# Altium footprint library Connector_Phoenix_MC.PcbLib: 180 footprints (part 11 of 12)
Each footprint in its own frame and in the unit in brackets; x right, y up, seen from the top. Pads: shape width x height; smd on the part's side, far side on the other; paste and mask are expansions set on the pad; w line width, h text height; cw(c..) or ccw(c..) is an arc to the next point about the centre after c.
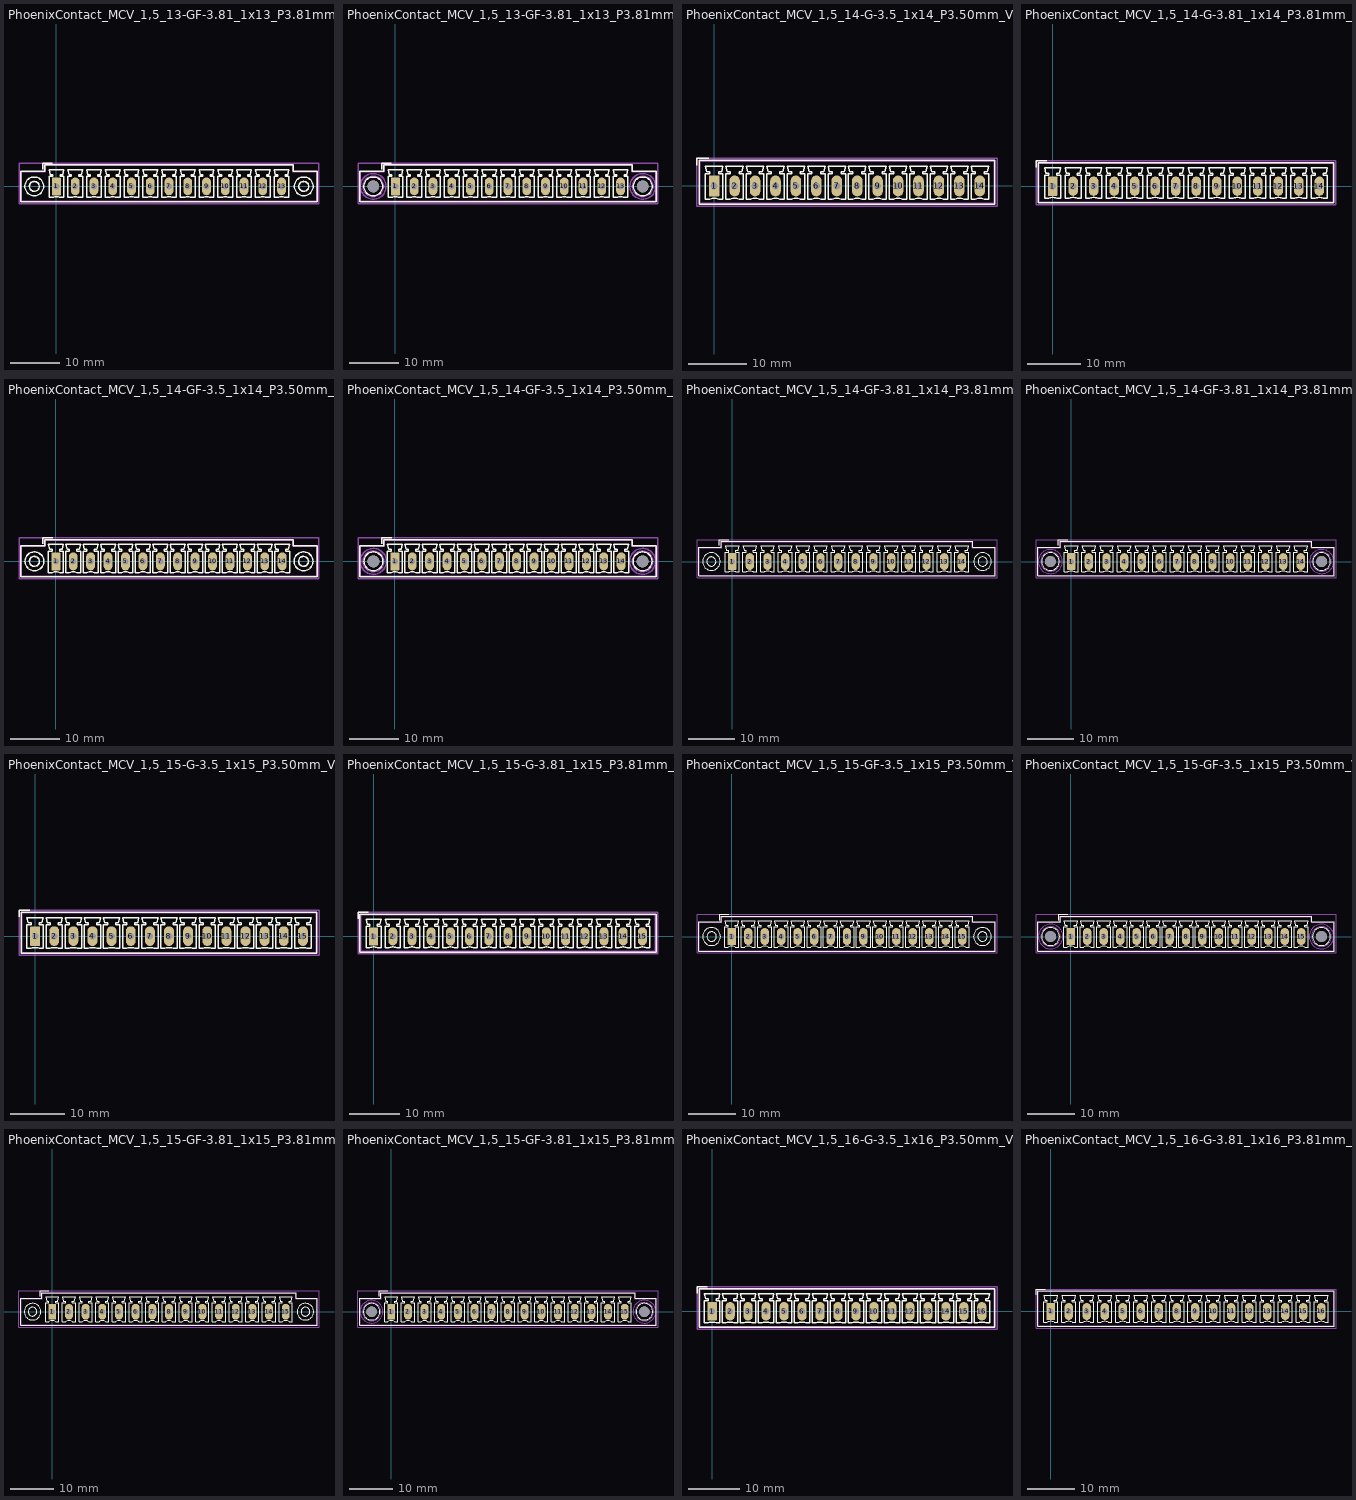
[diagram p10: the footprints below, top view; thin cyan lines are the x and y axes]

## PhoenixContact_MCV_1,5_13-GF-3.81_1x13_P3.81mm_Vertical_ThreadedFlange [mm]
pads (13):
  rrect14% 1.8x3.6 hole 1.2: 1(0,0)
  rrect100% 1.8x3.6 hole 1.2: 2(3.81,0) 3(7.62,0) 4(11.43,0) 5(15.24,0) 6(19.05,0) 7(22.86,0) 8(26.67,0) 9(30.48,0) 10(34.29,0) 11(38.1,0) 12(41.91,0) 13(45.72,0)
F.SilkS:
  drawing of 196 lines, arcs and shapes, not listed
Top Assembly:
  lines w0.254: -2.8,3.5 -2.8,4.75 -0.8,4.75 ; -7.1,-3 52.82,-3 52.82,3 48.02,3 48.02,4.25 -2.3,4.25 -2.3,3 -7.1,3 -7.1,-3
  text "'.Designator'" at 18.813,2.71 h1
Top Courtyard:
  lines w0.254: -7.6,-3.5 53.32,-3.5 53.32,4.75 -7.6,4.75 -7.6,-3.5
Top Designator:
  text ".Designator" at 15.242,0.117 h1.52

## PhoenixContact_MCV_1,5_13-GF-3.81_1x13_P3.81mm_Vertical_ThreadedFlange_MountHole [mm]
pads (15):
  rrect14% 1.8x3.6 hole 1.2: 1(0,0)
  rrect100% 1.8x3.6 hole 1.2: 2(3.81,0) 3(7.62,0) 4(11.43,0) 5(15.24,0) 6(19.05,0) 7(22.86,0) 8(26.67,0) 9(30.48,0) 10(34.29,0) 11(38.1,0) 12(41.91,0) 13(45.72,0)
  round 2.4 hole 2.4: Un1(-4.5,0) Un2(50.22,0)
F.SilkS:
  drawing of 194 lines, arcs and shapes, not listed
B.SilkS:
  circle w0.254: c50.22,0 r2.21
  circle w0.254: c-4.5,0 r2.21
Top Assembly:
  lines w0.254: -2.8,3.5 -2.8,4.75 -0.8,4.75 ; -7.1,-3 52.82,-3 52.82,3 48.02,3 48.02,4.25 -2.3,4.25 -2.3,3 -7.1,3 -7.1,-3
  text "'.Designator'" at 18.813,2.71 h1
Bottom Assembly:
  circle w0.254: c50.22,0 r2.1
  circle w0.254: c-4.5,0 r2.1
Top Courtyard:
  lines w0.254: -7.6,-3.5 53.32,-3.5 53.32,4.75 -7.6,4.75 -7.6,-3.5
Bottom Courtyard:
  circle w0.254: c50.22,0 r2.6
  circle w0.254: c-4.5,0 r2.6
Top Designator:
  text ".Designator" at 15.242,0.117 h1.52

## PhoenixContact_MCV_1,5_14-G-3.5_1x14_P3.50mm_Vertical [mm]
pads (14):
  rrect14% 1.8x3.6 hole 1.2: 1(0,0)
  rrect100% 1.8x3.6 hole 1.2: 2(3.5,0) 3(7,0) 4(10.5,0) 5(14,0) 6(17.5,0) 7(21,0) 8(24.5,0) 9(28,0) 10(31.5,0) 11(35,0) 12(38.5,0) 13(42,0) 14(45.5,0)
F.SilkS:
  drawing of 202 lines, arcs and shapes, not listed
Top Assembly:
  lines w0.254: -2.95,3.5 -2.95,4.75 -0.95,4.75 ; -2.45,-3 47.95,-3 47.95,4.25 -2.45,4.25 -2.45,-3
  text "'.Designator'" at 18.703,2.71 h1
Top Courtyard:
  lines w0.254: -2.95,-3.5 48.45,-3.5 48.45,4.75 -2.95,4.75 -2.95,-3.5
Top Designator:
  text ".Designator" at 15.132,0.117 h1.52

## PhoenixContact_MCV_1,5_14-G-3.81_1x14_P3.81mm_Vertical [mm]
pads (14):
  rrect14% 1.8x3.6 hole 1.2: 1(0,0)
  rrect100% 1.8x3.6 hole 1.2: 2(3.81,0) 3(7.62,0) 4(11.43,0) 5(15.24,0) 6(19.05,0) 7(22.86,0) 8(26.67,0) 9(30.48,0) 10(34.29,0) 11(38.1,0) 12(41.91,0) 13(45.72,0) 14(49.53,0)
F.SilkS:
  drawing of 202 lines, arcs and shapes, not listed
Top Assembly:
  lines w0.254: -3.1,3.5 -3.1,4.75 -1.1,4.75 ; -2.6,-3 52.13,-3 52.13,4.25 -2.6,4.25 -2.6,-3
  text "'.Designator'" at 20.713,2.71 h1
Top Courtyard:
  lines w0.254: -3.1,-3.5 52.63,-3.5 52.63,4.75 -3.1,4.75 -3.1,-3.5
Top Designator:
  text ".Designator" at 17.147,0.117 h1.52

## PhoenixContact_MCV_1,5_14-GF-3.5_1x14_P3.50mm_Vertical_ThreadedFlange [mm]
pads (14):
  rrect14% 1.8x3.6 hole 1.2: 1(0,0)
  rrect100% 1.8x3.6 hole 1.2: 2(3.5,0) 3(7,0) 4(10.5,0) 5(14,0) 6(17.5,0) 7(21,0) 8(24.5,0) 9(28,0) 10(31.5,0) 11(35,0) 12(38.5,0) 13(42,0) 14(45.5,0)
F.SilkS:
  drawing of 210 lines, arcs and shapes, not listed
Top Assembly:
  lines w0.254: -2.6,3.5 -2.6,4.75 -0.6,4.75 ; -6.9,-3 52.4,-3 52.4,3 47.6,3 47.6,4.25 -2.1,4.25 -2.1,3 -6.9,3 -6.9,-3
  text "'.Designator'" at 18.703,2.71 h1
Top Courtyard:
  lines w0.254: -7.4,-3.5 52.9,-3.5 52.9,4.75 -7.4,4.75 -7.4,-3.5
Top Designator:
  text ".Designator" at 15.132,0.117 h1.52

## PhoenixContact_MCV_1,5_14-GF-3.5_1x14_P3.50mm_Vertical_ThreadedFlange_MountHole [mm]
pads (16):
  rrect14% 1.8x3.6 hole 1.2: 1(0,0)
  rrect100% 1.8x3.6 hole 1.2: 2(3.5,0) 3(7,0) 4(10.5,0) 5(14,0) 6(17.5,0) 7(21,0) 8(24.5,0) 9(28,0) 10(31.5,0) 11(35,0) 12(38.5,0) 13(42,0) 14(45.5,0)
  round 2.4 hole 2.4: Un1(-4.3,0) Un2(49.8,0)
F.SilkS:
  drawing of 208 lines, arcs and shapes, not listed
B.SilkS:
  circle w0.254: c49.8,0 r2.21
  circle w0.254: c-4.3,0 r2.21
Top Assembly:
  lines w0.254: -2.6,3.5 -2.6,4.75 -0.6,4.75 ; -6.9,-3 52.4,-3 52.4,3 47.6,3 47.6,4.25 -2.1,4.25 -2.1,3 -6.9,3 -6.9,-3
  text "'.Designator'" at 18.703,2.71 h1
Bottom Assembly:
  circle w0.254: c49.8,0 r2.1
  circle w0.254: c-4.3,0 r2.1
Top Courtyard:
  lines w0.254: -7.4,-3.5 52.9,-3.5 52.9,4.75 -7.4,4.75 -7.4,-3.5
Bottom Courtyard:
  circle w0.254: c49.8,0 r2.6
  circle w0.254: c-4.3,0 r2.6
Top Designator:
  text ".Designator" at 15.132,0.117 h1.52

## PhoenixContact_MCV_1,5_14-GF-3.81_1x14_P3.81mm_Vertical_ThreadedFlange [mm]
pads (14):
  rrect14% 1.8x3.6 hole 1.2: 1(0,0)
  rrect100% 1.8x3.6 hole 1.2: 2(3.81,0) 3(7.62,0) 4(11.43,0) 5(15.24,0) 6(19.05,0) 7(22.86,0) 8(26.67,0) 9(30.48,0) 10(34.29,0) 11(38.1,0) 12(41.91,0) 13(45.72,0) 14(49.53,0)
F.SilkS:
  drawing of 210 lines, arcs and shapes, not listed
Top Assembly:
  lines w0.254: -2.8,3.5 -2.8,4.75 -0.8,4.75 ; -7.1,-3 56.63,-3 56.63,3 51.83,3 51.83,4.25 -2.3,4.25 -2.3,3 -7.1,3 -7.1,-3
  text "'.Designator'" at 20.713,2.71 h1
Top Courtyard:
  lines w0.254: -7.6,-3.5 57.13,-3.5 57.13,4.75 -7.6,4.75 -7.6,-3.5
Top Designator:
  text ".Designator" at 17.147,0.117 h1.52

## PhoenixContact_MCV_1,5_14-GF-3.81_1x14_P3.81mm_Vertical_ThreadedFlange_MountHole [mm]
pads (16):
  rrect14% 1.8x3.6 hole 1.2: 1(0,0)
  rrect100% 1.8x3.6 hole 1.2: 2(3.81,0) 3(7.62,0) 4(11.43,0) 5(15.24,0) 6(19.05,0) 7(22.86,0) 8(26.67,0) 9(30.48,0) 10(34.29,0) 11(38.1,0) 12(41.91,0) 13(45.72,0) 14(49.53,0)
  round 2.4 hole 2.4: Un1(-4.5,0) Un2(54.03,0)
F.SilkS:
  drawing of 208 lines, arcs and shapes, not listed
B.SilkS:
  circle w0.254: c54.03,0 r2.21
  circle w0.254: c-4.5,0 r2.21
Top Assembly:
  lines w0.254: -2.8,3.5 -2.8,4.75 -0.8,4.75 ; -7.1,-3 56.63,-3 56.63,3 51.83,3 51.83,4.25 -2.3,4.25 -2.3,3 -7.1,3 -7.1,-3
  text "'.Designator'" at 20.713,2.71 h1
Bottom Assembly:
  circle w0.254: c54.03,0 r2.1
  circle w0.254: c-4.5,0 r2.1
Top Courtyard:
  lines w0.254: -7.6,-3.5 57.13,-3.5 57.13,4.75 -7.6,4.75 -7.6,-3.5
Bottom Courtyard:
  circle w0.254: c54.03,0 r2.6
  circle w0.254: c-4.5,0 r2.6
Top Designator:
  text ".Designator" at 17.147,0.117 h1.52

## PhoenixContact_MCV_1,5_15-G-3.5_1x15_P3.50mm_Vertical [mm]
pads (15):
  rrect14% 1.8x3.6 hole 1.2: 1(0,0)
  rrect100% 1.8x3.6 hole 1.2: 2(3.5,0) 3(7,0) 4(10.5,0) 5(14,0) 6(17.5,0) 7(21,0) 8(24.5,0) 9(28,0) 10(31.5,0) 11(35,0) 12(38.5,0) 13(42,0) 14(45.5,0) 15(49,0)
F.SilkS:
  drawing of 216 lines, arcs and shapes, not listed
Top Assembly:
  lines w0.254: -2.95,3.5 -2.95,4.75 -0.95,4.75 ; -2.45,-3 51.45,-3 51.45,4.25 -2.45,4.25 -2.45,-3
  text "'.Designator'" at 20.453,2.71 h1
Top Courtyard:
  lines w0.254: -2.95,-3.5 51.95,-3.5 51.95,4.75 -2.95,4.75 -2.95,-3.5
Top Designator:
  text ".Designator" at 16.882,0.117 h1.52

## PhoenixContact_MCV_1,5_15-G-3.81_1x15_P3.81mm_Vertical [mm]
pads (15):
  rrect14% 1.8x3.6 hole 1.2: 1(0,0)
  rrect100% 1.8x3.6 hole 1.2: 2(3.81,0) 3(7.62,0) 4(11.43,0) 5(15.24,0) 6(19.05,0) 7(22.86,0) 8(26.67,0) 9(30.48,0) 10(34.29,0) 11(38.1,0) 12(41.91,0) 13(45.72,0) 14(49.53,0) 15(53.34,0)
F.SilkS:
  drawing of 216 lines, arcs and shapes, not listed
Top Assembly:
  lines w0.254: -3.1,3.5 -3.1,4.75 -1.1,4.75 ; -2.6,-3 55.94,-3 55.94,4.25 -2.6,4.25 -2.6,-3
  text "'.Designator'" at 22.623,2.71 h1
Top Courtyard:
  lines w0.254: -3.1,-3.5 56.44,-3.5 56.44,4.75 -3.1,4.75 -3.1,-3.5
Top Designator:
  text ".Designator" at 19.052,0.117 h1.52

## PhoenixContact_MCV_1,5_15-GF-3.5_1x15_P3.50mm_Vertical_ThreadedFlange [mm]
pads (15):
  rrect14% 1.8x3.6 hole 1.2: 1(0,0)
  rrect100% 1.8x3.6 hole 1.2: 2(3.5,0) 3(7,0) 4(10.5,0) 5(14,0) 6(17.5,0) 7(21,0) 8(24.5,0) 9(28,0) 10(31.5,0) 11(35,0) 12(38.5,0) 13(42,0) 14(45.5,0) 15(49,0)
F.SilkS:
  drawing of 224 lines, arcs and shapes, not listed
Top Assembly:
  lines w0.254: -2.6,3.5 -2.6,4.75 -0.6,4.75 ; -6.9,-3 55.9,-3 55.9,3 51.1,3 51.1,4.25 -2.1,4.25 -2.1,3 -6.9,3 -6.9,-3
  text "'.Designator'" at 20.453,2.71 h1
Top Courtyard:
  lines w0.254: -7.4,-3.5 56.4,-3.5 56.4,4.75 -7.4,4.75 -7.4,-3.5
Top Designator:
  text ".Designator" at 16.882,0.117 h1.52

## PhoenixContact_MCV_1,5_15-GF-3.5_1x15_P3.50mm_Vertical_ThreadedFlange_MountHole [mm]
pads (17):
  rrect14% 1.8x3.6 hole 1.2: 1(0,0)
  rrect100% 1.8x3.6 hole 1.2: 2(3.5,0) 3(7,0) 4(10.5,0) 5(14,0) 6(17.5,0) 7(21,0) 8(24.5,0) 9(28,0) 10(31.5,0) 11(35,0) 12(38.5,0) 13(42,0) 14(45.5,0) 15(49,0)
  round 2.4 hole 2.4: Un1(-4.3,0) Un2(53.3,0)
F.SilkS:
  drawing of 222 lines, arcs and shapes, not listed
B.SilkS:
  circle w0.254: c53.3,0 r2.21
  circle w0.254: c-4.3,0 r2.21
Top Assembly:
  lines w0.254: -2.6,3.5 -2.6,4.75 -0.6,4.75 ; -6.9,-3 55.9,-3 55.9,3 51.1,3 51.1,4.25 -2.1,4.25 -2.1,3 -6.9,3 -6.9,-3
  text "'.Designator'" at 20.453,2.71 h1
Bottom Assembly:
  circle w0.254: c53.3,0 r2.1
  circle w0.254: c-4.3,0 r2.1
Top Courtyard:
  lines w0.254: -7.4,-3.5 56.4,-3.5 56.4,4.75 -7.4,4.75 -7.4,-3.5
Bottom Courtyard:
  circle w0.254: c53.3,0 r2.6
  circle w0.254: c-4.3,0 r2.6
Top Designator:
  text ".Designator" at 16.882,0.117 h1.52

## PhoenixContact_MCV_1,5_15-GF-3.81_1x15_P3.81mm_Vertical_ThreadedFlange [mm]
pads (15):
  rrect14% 1.8x3.6 hole 1.2: 1(0,0)
  rrect100% 1.8x3.6 hole 1.2: 2(3.81,0) 3(7.62,0) 4(11.43,0) 5(15.24,0) 6(19.05,0) 7(22.86,0) 8(26.67,0) 9(30.48,0) 10(34.29,0) 11(38.1,0) 12(41.91,0) 13(45.72,0) 14(49.53,0) 15(53.34,0)
F.SilkS:
  drawing of 224 lines, arcs and shapes, not listed
Top Assembly:
  lines w0.254: -2.8,3.5 -2.8,4.75 -0.8,4.75 ; -7.1,-3 60.44,-3 60.44,3 55.64,3 55.64,4.25 -2.3,4.25 -2.3,3 -7.1,3 -7.1,-3
  text "'.Designator'" at 22.623,2.71 h1
Top Courtyard:
  lines w0.254: -7.6,-3.5 60.94,-3.5 60.94,4.75 -7.6,4.75 -7.6,-3.5
Top Designator:
  text ".Designator" at 19.052,0.117 h1.52

## PhoenixContact_MCV_1,5_15-GF-3.81_1x15_P3.81mm_Vertical_ThreadedFlange_MountHole [mm]
pads (17):
  rrect14% 1.8x3.6 hole 1.2: 1(0,0)
  rrect100% 1.8x3.6 hole 1.2: 2(3.81,0) 3(7.62,0) 4(11.43,0) 5(15.24,0) 6(19.05,0) 7(22.86,0) 8(26.67,0) 9(30.48,0) 10(34.29,0) 11(38.1,0) 12(41.91,0) 13(45.72,0) 14(49.53,0) 15(53.34,0)
  round 2.4 hole 2.4: Un1(-4.5,0) Un2(57.84,0)
F.SilkS:
  drawing of 222 lines, arcs and shapes, not listed
B.SilkS:
  circle w0.254: c57.84,0 r2.21
  circle w0.254: c-4.5,0 r2.21
Top Assembly:
  lines w0.254: -2.8,3.5 -2.8,4.75 -0.8,4.75 ; -7.1,-3 60.44,-3 60.44,3 55.64,3 55.64,4.25 -2.3,4.25 -2.3,3 -7.1,3 -7.1,-3
  text "'.Designator'" at 22.623,2.71 h1
Bottom Assembly:
  circle w0.254: c57.84,0 r2.1
  circle w0.254: c-4.5,0 r2.1
Top Courtyard:
  lines w0.254: -7.6,-3.5 60.94,-3.5 60.94,4.75 -7.6,4.75 -7.6,-3.5
Bottom Courtyard:
  circle w0.254: c57.84,0 r2.6
  circle w0.254: c-4.5,0 r2.6
Top Designator:
  text ".Designator" at 19.052,0.117 h1.52

## PhoenixContact_MCV_1,5_16-G-3.5_1x16_P3.50mm_Vertical [mm]
pads (16):
  rrect14% 1.8x3.6 hole 1.2: 1(0,0)
  rrect100% 1.8x3.6 hole 1.2: 2(3.5,0) 3(7,0) 4(10.5,0) 5(14,0) 6(17.5,0) 7(21,0) 8(24.5,0) 9(28,0) 10(31.5,0) 11(35,0) 12(38.5,0) 13(42,0) 14(45.5,0) 15(49,0) 16(52.5,0)
F.SilkS:
  drawing of 230 lines, arcs and shapes, not listed
Top Assembly:
  lines w0.254: -2.95,3.5 -2.95,4.75 -0.95,4.75 ; -2.45,-3 54.95,-3 54.95,4.25 -2.45,4.25 -2.45,-3
  text "'.Designator'" at 22.203,2.71 h1
Top Courtyard:
  lines w0.254: -2.95,-3.5 55.45,-3.5 55.45,4.75 -2.95,4.75 -2.95,-3.5
Top Designator:
  text ".Designator" at 18.632,0.117 h1.52

## PhoenixContact_MCV_1,5_16-G-3.81_1x16_P3.81mm_Vertical [mm]
pads (16):
  rrect14% 1.8x3.6 hole 1.2: 1(0,0)
  rrect100% 1.8x3.6 hole 1.2: 2(3.81,0) 3(7.62,0) 4(11.43,0) 5(15.24,0) 6(19.05,0) 7(22.86,0) 8(26.67,0) 9(30.48,0) 10(34.29,0) 11(38.1,0) 12(41.91,0) 13(45.72,0) 14(49.53,0) 15(53.34,0) 16(57.15,0)
F.SilkS:
  drawing of 230 lines, arcs and shapes, not listed
Top Assembly:
  lines w0.254: -3.1,3.5 -3.1,4.75 -1.1,4.75 ; -2.6,-3 59.75,-3 59.75,4.25 -2.6,4.25 -2.6,-3
  text "'.Designator'" at 24.533,2.71 h1
Top Courtyard:
  lines w0.254: -3.1,-3.5 60.25,-3.5 60.25,4.75 -3.1,4.75 -3.1,-3.5
Top Designator:
  text ".Designator" at 20.957,0.117 h1.52